# Altium schematic symbol library 1190370.SchLib: 1 symbol
Pins are listed as number, name and electrical type; pins without a type are passive.

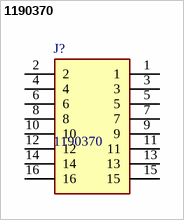
[diagram p0: symbol 1190370]

## 1190370
designator J?
Fixed Terminal Blocks LPTA 2,5/ 8-5,0; Manufacturer_Name: Phoenix Contact; Geometry.Height: 20.28mm; Mouser Part Number: 651-1190370; Mouser Price/Stock: https://www.mouser.co.uk/ProductDetail/Phoenix-Contact/1190370?qs=QNEnbhJQKvZeC7u30yQfdA%3D%3D; Manufacturer_Part_Number: 1190370; Datasheet Link: https://www.phoenixcontact.com/en-us/products/printed-circuit-board-terminal-lpta-25-8-50-1190370
footprint 1190370
pins: 1, 2, 3, 4, 5, 6, 7, 8, 9, 10, 11, 12, 13, 14, 15, 16